# EAGLE library part ATTINY85-PDIP8 (library modal)
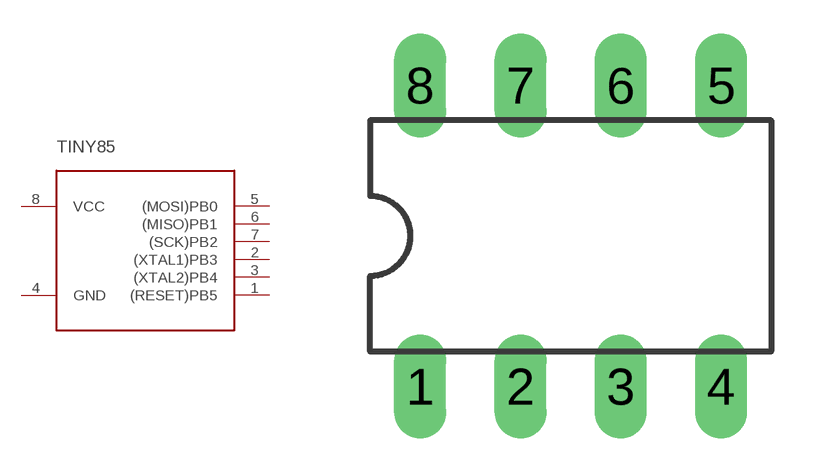
[diagram p1: symbol with the pads of DIL08; footprint DIL08]

Designator prefix IC

## ATTINY85-PDIP8  [DIL08]
1  (RESET)PB5
2  (XTAL1)PB3
3  (XTAL2)PB4
4  GND
5  (MOSI)PB0
6  (MISO)PB1
7  (SCK)PB2
8  VCC

## Footprint DIL08 (pad centres in mm)
Dual In Line Package
drill 0.813 long: 1 -3.81,-3.81; 2 -1.27,-3.81; 3 1.27,-3.81; 4 3.81,-3.81; 5 3.81,3.81; 6 1.27,3.81; 7 -1.27,3.81; 8 -3.81,3.81